# EAGLE library part ADE-30W+ (library mr_radar)
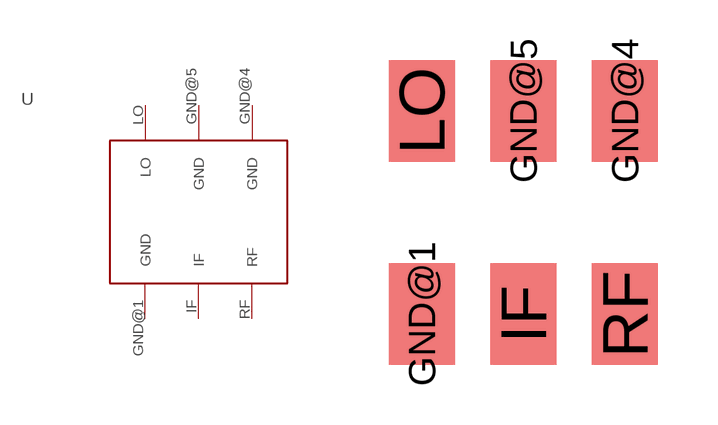
[diagram p7: symbol with the pads of CD542; footprint CD542]

Designator prefix -

## ADE-30W+  [CD542]
GND@1  GND
GND@4  GND
GND@5  GND
IF  IF
LO  LO
RF  RF

## Footprint CD542 (pad centres in mm)
smd 1.651 x 2.54: GND@1 -2.54,-2.54; GND@4 2.54,2.54; GND@5 0,2.54; IF 0,-2.54; LO -2.54,2.54; RF 2.54,-2.54